# Altium integrated library NSC Amplifier.IntLib: 737 symbols (part 13 of 19)
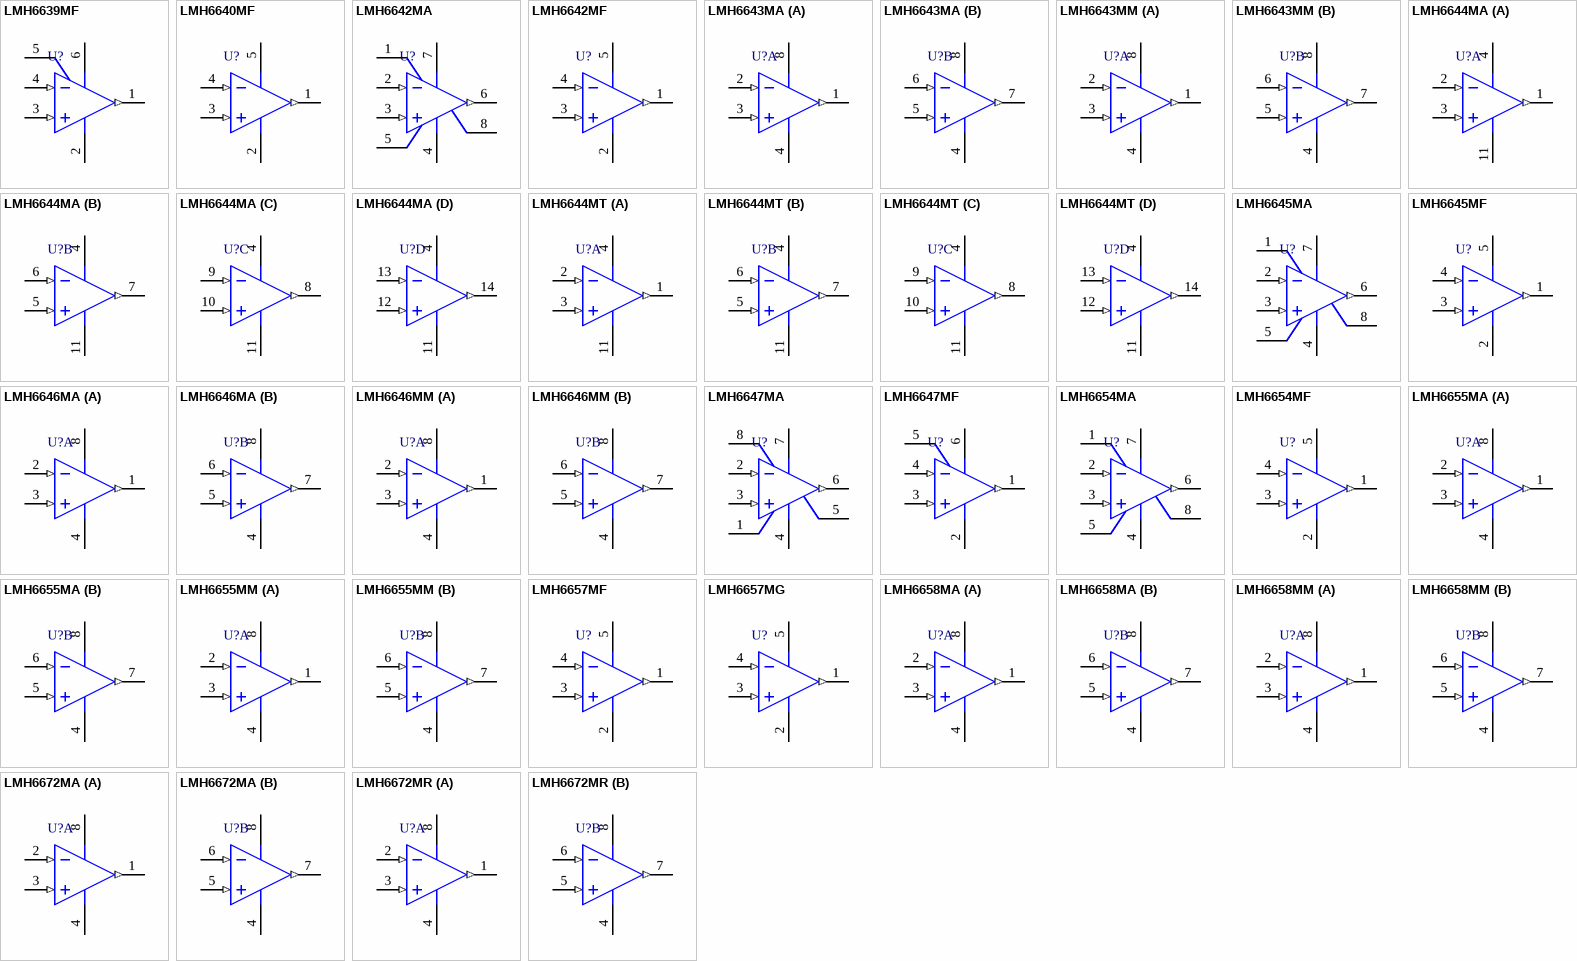
[diagram p51: symbols LMH6639MF to LMH6672MR]

## LMH6644MA
designator U?
Low Power, 130MHz, 75mA Rail-to-Rail Output Amplifier; PartNumber: LMH6644MA; Manufacturer: National Semiconductor; CompType: Amplifiers; PackageTopMarking: NSUZXYTT*LMH6644MA; PowerWise: Y; Published: 4-Dec-2008; LatestRevisionDate: 13-Jan-2009; LatestRevisionNote: Sim Model Added.; DatasheetVersion: Nov-2008; PackageVersion: revJ, Jan-1996; PackageReference: M14A; Publisher: Altium Limited; PackageDescription: Molded Package S.O., .150in Wide, 14 Lead; RoHS: O; PinCount: 14; DigiKeyPartNumber: LMH6644MA-ND; Code_JEDEC: MS-012AB; Code_IPC: SOIC127P600-14; ComponentLink1Description: LMH6642 Datasheet; ComponentLink1URL: http://www.national.com/ds/LM/LMH6642.pdf; ComponentLink2Description: LMH6644 Web Page; ComponentLink2URL: http://www.national.com/pf/LM/LMH6644.html; ComponentLink3Description: M14A Package Page; ComponentLink3URL: http://www.national.com/packaging/folders/m14a.html
footprint M14A_N (SOIC, 14-Leads, Body 8.6x3.9mm, Pitch 1.27mm, IPC Medium Density)
footprint M14A_L (SOIC, 14-Leads, Body 8.6x3.9mm, Pitch 1.27mm, IPC High Density)
footprint M14A_M (SOIC, 14-Leads, Body 8.6x3.9mm, Pitch 1.27mm, IPC Low Density)
simulation model LMH6644 (SUBCKT)
pins on every part: 4 V+ (power), 11 V- (power)
part A pins: 1 OUTA (out), 2 INA- (in), 3 INA+ (in)
part B pins: 5 INB+ (in), 6 INB- (in), 7 OUTB (out)
part C pins: 8 OUTC (out), 9 INC- (in), 10 INC+ (in)
part D pins: 12 IND+ (in), 13 IND- (in), 14 OUTD (out)

## LMH6644MT
designator U?
Low Power, 130MHz, 75mA Rail-to-Rail Output Amplifier; PartNumber: LMH6644MT; Manufacturer: National Semiconductor; CompType: Amplifiers; PackageTopMarking: NSZXYTT*LMH66*44MT; PowerWise: Y; Published: 4-Dec-2008; LatestRevisionDate: 13-Jan-2009; LatestRevisionNote: Sim Model Added.; DatasheetVersion: Nov-2008; PackageVersion: revD, Jun-2003; PackageReference: MTC14; Publisher: Altium Limited; PackageDescription: Molded TSSOP, JEDEC, 5 x 4.4 x 0.9mm Body, 14 Lead, 0.65mm Pitch; RoHS: Y; PinCount: 14; DigiKeyPartNumber: LMH6644MT-ND; Code_JEDEC: MO-153-AB-1; ComponentLink1Description: LMH6642 Datasheet; ComponentLink1URL: http://www.national.com/ds/LM/LMH6642.pdf; ComponentLink2Description: LMH6644 Web Page; ComponentLink2URL: http://www.national.com/pf/LM/LMH6644.html; ComponentLink3Description: MTC14 Package Page; ComponentLink3URL: http://www.national.com/packaging/folders/mtc14.html
footprint MTC14_N (TSOP, 14-Leads, Body 5x4.4mm, Pitch 0.65mm, IPC Medium Density)
footprint MTC14_L (TSOP, 14-Leads, Body 5x4.4mm, Pitch 0.65mm, IPC High Density)
footprint MTC14_M (TSOP, 14-Leads, Body 5x4.4mm, Pitch 0.65mm, IPC Low Density)
simulation model LMH6644 (SUBCKT)
pins on every part: 4 V+ (power), 11 V- (power)
part A pins: 1 OUTA (out), 2 INA- (in), 3 INA+ (in)
part B pins: 5 INB+ (in), 6 INB- (in), 7 OUTB (out)
part C pins: 8 OUTC (out), 9 INC- (in), 10 INC+ (in)
part D pins: 12 IND+ (in), 13 IND- (in), 14 OUTD (out)

## LMH6645MA
designator U?
2.7V, 650uA, 65MHz, Rail-to-Rail Input and Output Amplifiers with Shutdown Option; PartNumber: LMH6645MA; Manufacturer: National Semiconductor; PackageTopMarking: NSZXTT*LMH66*45MA; PowerWise: Y; Published: 4-Dec-2008; LatestRevisionDate: 13-Jan-2009; LatestRevisionNote: Sim Model Added.; DatasheetVersion: Jun-2005; PackageVersion: revL, Sep-2006; PackageReference: M08A; Publisher: Altium Limited; PackageDescription: SOIC Narrow, 4.9 x 3.9 x 1.45mm, 8 Lead, 1.27mm Pitch; CompType: Amplifiers; RoHS: O; PinCount: 8; DigiKeyPartNumber: LMH6645MA-ND; Code_JEDEC: MS-012-AA; Code_IPC: SOIC127P600-8; ComponentLink1Description: LMH6645 Datasheet; ComponentLink1URL: http://www.national.com/ds/LM/LMH6645.pdf; ComponentLink2Description: LMH6645 Web Page; ComponentLink2URL: http://www.national.com/pf/LM/LMH6645.html; ComponentLink3Description: M08A Package Page; ComponentLink3URL: http://www.national.com/packaging/folders/m08a.html
footprint M08A_N (SOIC, 8-Leads, Body 4.9x3.9mm, Pitch 1.27mm, IPC Medium Density)
footprint M08A_L (SOIC, 8-Leads, Body 4.9x3.9mm, Pitch 1.27mm, IPC High Density)
footprint M08A_M (SOIC, 8-Leads, Body 4.9x3.9mm, Pitch 1.27mm, IPC Low Density)
simulation model LMH6645 (SUBCKT)
pins: 1 NC, 2 IN- (in), 3 IN+ (in), 4 V- (power), 5 NC, 6 OUT (out), 7 V+ (power), 8 NC

## LMH6645MF
designator U?
2.7V, 650uA, 65MHz, Rail-to-Rail Input and Output Amplifiers with Shutdown Option; PartNumber: LMH6645MF; Manufacturer: National Semiconductor; PackageTopMarking: A68A*XTT; PowerWise: Y; Published: 4-Dec-2008; LatestRevisionDate: 13-Jan-2009; LatestRevisionNote: Sim Model Added.; DatasheetVersion: Jun-2005; PackageVersion: revD, Aug-2008; PackageReference: MF05A; Publisher: Altium Limited; PackageDescription: Molded SOT-23, .115 x .063 x .040 in Body, 5 Lead, .0375 in Pitch; CompType: Amplifiers; RoHS: O; PinCount: 5; DigiKeyPartNumber: LMH6645MFCT-ND; Code_IPC: SOT23-5; ComponentLink1Description: LMH6645 Datasheet; ComponentLink1URL: http://www.national.com/ds/LM/LMH6645.pdf; ComponentLink2Description: LMH6645 Web Page; ComponentLink2URL: http://www.national.com/pf/LM/LMH6645.html; ComponentLink3Description: MF05A Package Page; ComponentLink3URL: http://www.national.com/packaging/folders/mf05a.html
footprint MF05A_N (SOT23, 5-Leads, Body 2.9x1.6mm, Pitch 0.95mm, Lead Span 2.8mm, IPC Medium Density)
footprint MF05A_L (SOT23, 5-Leads, Body 2.9x1.6mm, Pitch 0.95mm, Lead Span 2.8mm, IPC High Density)
footprint MF05A_M (SOT23, 5-Leads, Body 2.9x1.6mm, Pitch 0.95mm, Lead Span 2.8mm, IPC Low Density)
simulation model LMH6645 (SUBCKT)
pins: 1 OUT (out), 2 V- (power), 3 IN+ (in), 4 IN- (in), 5 V+ (power)

## LMH6646MA
designator U?
2.7V, 650uA, 65MHz, Rail-to-Rail Input and Output Amplifiers with Shutdown Option; PartNumber: LMH6646MA; Manufacturer: National Semiconductor; PackageTopMarking: NSZXTT*LMH66*46MA; PowerWise: Y; Published: 4-Dec-2008; LatestRevisionDate: 13-Jan-2009; LatestRevisionNote: Sim Model Added.; DatasheetVersion: Jun-2005; PackageVersion: revL, Sep-2006; PackageReference: M08A; Publisher: Altium Limited; PackageDescription: SOIC Narrow, 4.9 x 3.9 x 1.45mm, 8 Lead, 1.27mm Pitch; CompType: Amplifiers; RoHS: Y; PinCount: 8; DigiKeyPartNumber: LMH6646MA-ND; Code_JEDEC: MS-012-AA; Code_IPC: SOIC127P600-8; ComponentLink1Description: LMH6645 Datasheet; ComponentLink1URL: http://www.national.com/ds/LM/LMH6645.pdf; ComponentLink2Description: LMH6646 Web Page; ComponentLink2URL: http://www.national.com/pf/LM/LMH6646.html; ComponentLink3Description: M08A Package Page; ComponentLink3URL: http://www.national.com/packaging/folders/m08a.html
footprint M08A_N (SOIC, 8-Leads, Body 4.9x3.9mm, Pitch 1.27mm, IPC Medium Density)
footprint M08A_L (SOIC, 8-Leads, Body 4.9x3.9mm, Pitch 1.27mm, IPC High Density)
footprint M08A_M (SOIC, 8-Leads, Body 4.9x3.9mm, Pitch 1.27mm, IPC Low Density)
simulation model LMH6646 (SUBCKT)
pins on every part: 4 V- (power), 8 V+ (power)
part A pins: 1 OUTA (out), 2 INA- (in), 3 INA+ (in)
part B pins: 5 INB+ (in), 6 INB- (in), 7 OUTB (out)

## LMH6646MM
designator U?
2.7V, 650uA, 65MHz, Rail-to-Rail Input and Output Amplifiers with Shutdown Option; PartNumber: LMH6646MM; Manufacturer: National Semiconductor; PackageTopMarking: ZXTT*A70A; PowerWise: Y; Published: 4-Dec-2008; LatestRevisionDate: 13-Jan-2009; LatestRevisionNote: Sim Model Added.; DatasheetVersion: Jun-2005; PackageVersion: revF, Apr-2008; PackageReference: MUA08A; Publisher: Altium Limited; PackageDescription: MINI SOIC, .118 x .118 x .034in, 8 Lead, .0256in Pitch; CompType: Amplifiers; RoHS: O; PinCount: 8; DigiKeyPartNumber: LMH6646MMCT-ND; Code_JEDEC: MO-187-AA; ComponentLink1Description: LMH6645 Datasheet; ComponentLink1URL: http://www.national.com/ds/LM/LMH6645.pdf; ComponentLink2Description: LMH6646 Web Page; ComponentLink2URL: http://www.national.com/pf/LM/LMH6646.html; ComponentLink3Description: MUA08A Package Page; ComponentLink3URL: http://www.national.com/packaging/folders/mua08a.html
footprint MUA08A_N (TSOP, 8-Leads, Body 3x3mm, Pitch 0.65mm, IPC Medium Density)
footprint MUA08A_L (TSOP, 8-Leads, Body 3x3mm, Pitch 0.65mm, IPC High Density)
footprint MUA08A_M (TSOP, 8-Leads, Body 3x3mm, Pitch 0.65mm, IPC Low Density)
simulation model LMH6646 (SUBCKT)
pins on every part: 4 V- (power), 8 V+ (power)
part A pins: 1 OUTA (out), 2 INA- (in), 3 INA+ (in)
part B pins: 5 INB+ (in), 6 INB- (in), 7 OUTB (out)

## LMH6647MA
designator U?
2.7V, 650uA, 65MHz, Rail-to-Rail Input and Output Amplifiers with Shutdown Option; PartNumber: LMH6647MA; Manufacturer: National Semiconductor; PackageTopMarking: NSZXTT*LMH66*47MA; PowerWise: Y; Published: 4-Dec-2008; LatestRevisionDate: 13-Jan-2009; LatestRevisionNote: Sim Model Added.; DatasheetVersion: Jun-2005; PackageVersion: revL, Sep-2006; PackageReference: M08A; Publisher: Altium Limited; PackageDescription: SOIC Narrow, 4.9 x 3.9 x 1.45mm, 8 Lead, 1.27mm Pitch; CompType: Amplifiers; RoHS: Y; PinCount: 8; DigiKeyPartNumber: LMH6647MA-ND; Code_JEDEC: MS-012-AA; Code_IPC: SOIC127P600-8; ComponentLink1Description: LMH6645 Datasheet; ComponentLink1URL: http://www.national.com/ds/LM/LMH6645.pdf; ComponentLink2Description: LMH6647 Web Page; ComponentLink2URL: http://www.national.com/pf/LM/LMH6647.html; ComponentLink3Description: M08A Package Page; ComponentLink3URL: http://www.national.com/packaging/folders/m08a.html
footprint M08A_N (SOIC, 8-Leads, Body 4.9x3.9mm, Pitch 1.27mm, IPC Medium Density)
footprint M08A_L (SOIC, 8-Leads, Body 4.9x3.9mm, Pitch 1.27mm, IPC High Density)
footprint M08A_M (SOIC, 8-Leads, Body 4.9x3.9mm, Pitch 1.27mm, IPC Low Density)
simulation model LMH6647 (SUBCKT)
pins: 1 NC, 2 IN- (in), 3 IN+ (in), 4 V- (power), 5 NC, 6 OUT (out), 7 V+ (power), 8 SD

## LMH6647MF
designator U?
2.7V, 650uA, 65MHz, Rail-to-Rail Input and Output Amplifiers with Shutdown Option; PartNumber: LMH6647MF; Manufacturer: National Semiconductor; PackageTopMarking: A69A*XTT; PowerWise: Y; Published: 4-Dec-2008; LatestRevisionDate: 13-Jan-2009; LatestRevisionNote: Sim Model Added.; DatasheetVersion: Jun-2005; PackageVersion: revC, Sep-2005; PackageReference: MF06A; Publisher: Altium Limited; PackageDescription: Molded SOT-23, .115 x .063 x .040in Body, 6 Lead, .0375in in Pitch; CompType: Amplifiers; RoHS: O; PinCount: 6; DigiKeyPartNumber: LMH6647MFCT-ND; Code_JEDEC: MO-178-AB; Code_IPC: SOT26A-6; ComponentLink1Description: LMH6645 Datasheet; ComponentLink1URL: http://www.national.com/ds/LM/LMH6645.pdf; ComponentLink2Description: LMH6647 Web Page; ComponentLink2URL: http://www.national.com/pf/LM/LMH6647.html; ComponentLink3Description: MF06A Package Page; ComponentLink3URL: http://www.national.com/packaging/folders/mf06a.html
footprint MF06A_N (SOT23, 6-Leads, Body 2.9x1.6mm, Pitch 0.95mm, Lead Span 2.8mm, IPC Medium Density)
footprint MF06A_L (SOT23, 6-Leads, Body 2.9x1.6mm, Pitch 0.95mm, Lead Span 2.8mm, IPC High Density)
footprint MF06A_M (SOT23, 6-Leads, Body 2.9x1.6mm, Pitch 0.95mm, Lead Span 2.8mm, IPC Low Density)
simulation model LMH6647 (SUBCKT)
pins: 1 OUT (out), 2 V- (power), 3 IN+ (in), 4 IN- (in), 5 SD, 6 V+ (power)

## LMH6654MA
designator U?
Single Low Power, 250 MHz, Low Noise Amplifier; PartNumber: LMH6654MA; Manufacturer: National Semiconductor; CompType: Amplifiers; PackageTopMarking: NSZXTT*LMH66*54MA; PowerWise: Y; Published: 4-Dec-2008; LatestRevisionDate: 13-Jan-2009; LatestRevisionNote: Sim Model Added.; DatasheetVersion: Jun-2009; PackageVersion: revL, Sep-2006; PackageReference: M08A; Publisher: Altium Limited; PackageDescription: SOIC Narrow, 4.9 x 3.9 x 1.45mm, 8 Lead, 1.27mm Pitch; RoHS: Y; PinCount: 8; DigiKeyPartNumber: LMH6654MA-ND; Code_JEDEC: MS-012-AA; Code_IPC: SOIC127P600-8; ComponentLink1Description: LMH6654 Datasheet; ComponentLink1URL: http://www.national.com/ds/LM/LMH6654.pdf; ComponentLink2Description: LMH6654 Web Page; ComponentLink2URL: http://www.national.com/pf/LM/LMH6654.html; ComponentLink3Description: M08A Package Page; ComponentLink3URL: http://www.national.com/packaging/folders/m08a.html
footprint M08A_N (SOIC, 8-Leads, Body 4.9x3.9mm, Pitch 1.27mm, IPC Medium Density)
footprint M08A_L (SOIC, 8-Leads, Body 4.9x3.9mm, Pitch 1.27mm, IPC High Density)
footprint M08A_M (SOIC, 8-Leads, Body 4.9x3.9mm, Pitch 1.27mm, IPC Low Density)
simulation model LMH6655 (SUBCKT)
pins: 1 NC, 2 IN- (in), 3 IN+ (in), 4 V- (power), 5 NC, 6 OUT (out), 7 V+ (power), 8 NC

## LMH6654MF
designator U?
Single Low Power, 250 MHz, Low Noise Amplifier; PartNumber: LMH6654MF; Manufacturer: National Semiconductor; CompType: Amplifiers; PackageTopMarking: A66A*XTT; PowerWise: Y; Published: 4-Dec-2008; LatestRevisionDate: 13-Jan-2009; LatestRevisionNote: Sim Model Added.; DatasheetVersion: Jun-2009; PackageVersion: revD, Aug-2008; PackageReference: MF05A; Publisher: Altium Limited; PackageDescription: Molded SOT-23, .115 x .063 x .040 in Body, 5 Lead, .0375 in Pitch; RoHS: O; PinCount: 5; DigiKeyPartNumber: LMH6654MFCT-ND; Code_IPC: SOT23-5; ComponentLink1Description: LMH6654 Datasheet; ComponentLink1URL: http://www.national.com/ds/LM/LMH6654.pdf; ComponentLink2Description: LMH6654 Web Page; ComponentLink2URL: http://www.national.com/pf/LM/LMH6654.html; ComponentLink3Description: MF05A Package Page; ComponentLink3URL: http://www.national.com/packaging/folders/mf05a.html
footprint MF05A_N (SOT23, 5-Leads, Body 2.9x1.6mm, Pitch 0.95mm, Lead Span 2.8mm, IPC Medium Density)
footprint MF05A_L (SOT23, 5-Leads, Body 2.9x1.6mm, Pitch 0.95mm, Lead Span 2.8mm, IPC High Density)
footprint MF05A_M (SOT23, 5-Leads, Body 2.9x1.6mm, Pitch 0.95mm, Lead Span 2.8mm, IPC Low Density)
simulation model LMH6655 (SUBCKT)
pins: 1 OUT (out), 2 V- (power), 3 IN+ (in), 4 IN- (in), 5 V+ (power)

## LMH6655MA
designator U?
Dual Low Power, 250 MHz, Low Noise Amplifier; PartNumber: LMH6655MA; Manufacturer: National Semiconductor; CompType: Amplifiers; PackageTopMarking: NSZXTT*LMH66*55MA; PowerWise: Y; Published: 4-Dec-2008; LatestRevisionDate: 13-Jan-2009; LatestRevisionNote: Sim Model Added.; DatasheetVersion: Jun-2009; PackageVersion: revL, Sep-2006; PackageReference: M08A; Publisher: Altium Limited; PackageDescription: SOIC Narrow, 4.9 x 3.9 x 1.45mm, 8 Lead, 1.27mm Pitch; RoHS: O; PinCount: 8; DigiKeyPartNumber: LMH6655MA-ND; Code_JEDEC: MS-012-AA; Code_IPC: SOIC127P600-8; ComponentLink1Description: LMH6654 Datasheet; ComponentLink1URL: http://www.national.com/ds/LM/LMH6654.pdf; ComponentLink2Description: LMH6655 Web Page; ComponentLink2URL: http://www.national.com/pf/LM/LMH6655.html; ComponentLink3Description: M08A Package Page; ComponentLink3URL: http://www.national.com/packaging/folders/m08a.html
footprint M08A_N (SOIC, 8-Leads, Body 4.9x3.9mm, Pitch 1.27mm, IPC Medium Density)
footprint M08A_L (SOIC, 8-Leads, Body 4.9x3.9mm, Pitch 1.27mm, IPC High Density)
footprint M08A_M (SOIC, 8-Leads, Body 4.9x3.9mm, Pitch 1.27mm, IPC Low Density)
simulation model LMH6655 (SUBCKT)
pins on every part: 4 V- (power), 8 V+ (power)
part A pins: 1 OUTA (out), 2 INA- (in), 3 INA+ (in)
part B pins: 5 INB+ (in), 6 INB- (in), 7 OUTB (out)

## LMH6655MM
designator U?
Dual Low Power, 250 MHz, Low Noise Amplifier; PartNumber: LMH6655MM; Manufacturer: National Semiconductor; CompType: Amplifiers; PackageTopMarking: ZXTT*A67A; PowerWise: Y; Published: 4-Dec-2008; LatestRevisionDate: 13-Jan-2009; LatestRevisionNote: Sim Model Added.; DatasheetVersion: Jun-2009; PackageVersion: revF, Apr-2008; PackageReference: MUA08A; Publisher: Altium Limited; PackageDescription: MINI SOIC, .118 x .118 x .034in, 8 Lead, .0256in Pitch; RoHS: Y; PinCount: 8; DigiKeyPartNumber: LMH6655MMCT-ND; Code_JEDEC: MO-187-AA; ComponentLink1Description: LMH6654 Datasheet; ComponentLink1URL: http://www.national.com/ds/LM/LMH6654.pdf; ComponentLink2Description: LMH6655 Web Page; ComponentLink2URL: http://www.national.com/pf/LM/LMH6655.html; ComponentLink3Description: MUA08A Package Page; ComponentLink3URL: http://www.national.com/packaging/folders/mua08a.html
footprint MUA08A_N (TSOP, 8-Leads, Body 3x3mm, Pitch 0.65mm, IPC Medium Density)
footprint MUA08A_L (TSOP, 8-Leads, Body 3x3mm, Pitch 0.65mm, IPC High Density)
footprint MUA08A_M (TSOP, 8-Leads, Body 3x3mm, Pitch 0.65mm, IPC Low Density)
simulation model LMH6655 (SUBCKT)
pins on every part: 4 V- (power), 8 V+ (power)
part A pins: 1 OUTA (out), 2 INA- (in), 3 INA+ (in)
part B pins: 5 INB+ (in), 6 INB- (in), 7 OUTB (out)

## LMH6657MF
designator U?
270MHz Single Supply, Single & Dual Operational Amplifiers; PartNumber: LMH6657MF; Manufacturer: National Semiconductor; PackageTopMarking: A85A*XTT; PowerWise: Y; Published: 4-Dec-2008; LatestRevisionDate: 13-Jan-2009; LatestRevisionNote: Sim Model Added.; DatasheetVersion: Oct-2004; PackageVersion: revD, Aug-2008; PackageReference: MF05A; Publisher: Altium Limited; PackageDescription: Molded SOT-23, .115 x .063 x .040 in Body, 5 Lead, .0375 in Pitch; CompType: Amplifiers; RoHS: O; PinCount: 5; DigiKeyPartNumber: LMH6657MFCT-ND; Code_IPC: SOT23-5; ComponentLink1Description: LMH6657 Datasheet; ComponentLink1URL: http://www.national.com/ds/LM/LMH6657.pdf; ComponentLink2Description: LMH6657 Web Page; ComponentLink2URL: http://www.national.com/pf/LM/LMH6657.html; ComponentLink3Description: MF05A Package Page; ComponentLink3URL: http://www.national.com/packaging/folders/mf05a.html
footprint MF05A_N (SOT23, 5-Leads, Body 2.9x1.6mm, Pitch 0.95mm, Lead Span 2.8mm, IPC Medium Density)
footprint MF05A_L (SOT23, 5-Leads, Body 2.9x1.6mm, Pitch 0.95mm, Lead Span 2.8mm, IPC High Density)
footprint MF05A_M (SOT23, 5-Leads, Body 2.9x1.6mm, Pitch 0.95mm, Lead Span 2.8mm, IPC Low Density)
simulation model LMH6657 (SUBCKT)
pins: 1 OUT (out), 2 V- (power), 3 IN+ (in), 4 IN- (in), 5 V+ (power)

## LMH6657MG
designator U?
270MHz Single Supply, Single & Dual Operational Amplifiers; PartNumber: LMH6657MG; Manufacturer: National Semiconductor; PackageTopMarking: A76*XTT; PowerWise: Y; Published: 4-Dec-2008; LatestRevisionDate: 13-Jan-2009; LatestRevisionNote: Sim Model Added.; DatasheetVersion: Oct-2004; PackageVersion: revD, Jun-2007; PackageReference: MAA05A; Publisher: Altium Limited; PackageDescription: Molded SC-70, 2 x 1.25 x .9mm, 5 Lead, 0.65mm Pitch; CompType: Amplifiers; RoHS: O; PinCount: 5; DigiKeyPartNumber: LMH6657MGCT-ND; Code_JEITA: SC-88A; Code_JEDEC: MO-203-AA; Code_IPC: SOT353-5; ComponentLink1Description: LMH6657 Datasheet; ComponentLink1URL: http://www.national.com/ds/LM/LMH6657.pdf; ComponentLink2Description: LMH6657 Web Page; ComponentLink2URL: http://www.national.com/pf/LM/LMH6657.html; ComponentLink3Description: MAA05A Package Page; ComponentLink3URL: http://www.national.com/packaging/folders/maa05a.html
footprint MAA05A_N (SOT353, 5-Leads, Body 2x1.3mm, Pitch 0.65mm, Lead Span 2.1mm, IPC Medium Density)
footprint MAA05A_L (SOT353, 5-Leads, Body 2x1.3mm, Pitch 0.65mm, Lead Span 2.1mm, IPC High Density)
footprint MAA05A_M (SOT353, 5-Leads, Body 2x1.3mm, Pitch 0.65mm, Lead Span 2.1mm, IPC Low Density)
simulation model LMH6657 (SUBCKT)
pins: 1 OUT (out), 2 V- (power), 3 IN+ (in), 4 IN- (in), 5 V+ (power)

## LMH6658MA
designator U?
270MHz Single Supply, Single & Dual Operational Amplifiers; PartNumber: LMH6658MA; Manufacturer: National Semiconductor; PackageTopMarking: NSZXTT*LMH66*58MA; PowerWise: Y; Published: 4-Dec-2008; LatestRevisionDate: 13-Jan-2009; LatestRevisionNote: Sim Model Added.; DatasheetVersion: Oct-2004; PackageVersion: revL, Sep-2006; PackageReference: M08A; Publisher: Altium Limited; PackageDescription: SOIC Narrow, 4.9 x 3.9 x 1.45mm, 8 Lead, 1.27mm Pitch; CompType: Amplifiers; RoHS: Y; PinCount: 8; DigiKeyPartNumber: LMH6658MA-ND; Code_JEDEC: MS-012-AA; Code_IPC: SOIC127P600-8; ComponentLink1Description: LMH6658 Datasheet; ComponentLink1URL: http://www.national.com/ds/LM/LMH6658.pdf; ComponentLink2Description: LMH6658 Web Page; ComponentLink2URL: http://www.national.com/pf/LM/LMH6658.html; ComponentLink3Description: M08A Package Page; ComponentLink3URL: http://www.national.com/packaging/folders/m08a.html
footprint M08A_N (SOIC, 8-Leads, Body 4.9x3.9mm, Pitch 1.27mm, IPC Medium Density)
footprint M08A_L (SOIC, 8-Leads, Body 4.9x3.9mm, Pitch 1.27mm, IPC High Density)
footprint M08A_M (SOIC, 8-Leads, Body 4.9x3.9mm, Pitch 1.27mm, IPC Low Density)
simulation model LMH6657 (SUBCKT)
pins on every part: 4 V- (power), 8 V+ (power)
part A pins: 1 OUTA (out), 2 INA- (in), 3 INA+ (in)
part B pins: 5 INB+ (in), 6 INB- (in), 7 OUTB (out)

## LMH6658MM
designator U?
270MHz Single Supply, Single & Dual Operational Amplifiers; PartNumber: LMH6658MM; Manufacturer: National Semiconductor; PackageTopMarking: ZXTT*A88A; PowerWise: Y; Published: 4-Dec-2008; LatestRevisionDate: 13-Jan-2009; LatestRevisionNote: Sim Model Added.; DatasheetVersion: Oct-2004; PackageVersion: revF, Apr-2008; PackageReference: MUA08A; Publisher: Altium Limited; PackageDescription: MINI SOIC, .118 x .118 x .034in, 8 Lead, .0256in Pitch; CompType: Amplifiers; RoHS: Y; PinCount: 8; DigiKeyPartNumber: LMH6658MMCT-ND; Code_JEDEC: MO-187-AA; ComponentLink1Description: LMH6658 Datasheet; ComponentLink1URL: http://www.national.com/ds/LM/LMH6658.pdf; ComponentLink2Description: LMH6658 Web Page; ComponentLink2URL: http://www.national.com/pf/LM/LMH6658.html; ComponentLink3Description: MUA08A Package Page; ComponentLink3URL: http://www.national.com/packaging/folders/mua08a.html
footprint MUA08A_N (TSOP, 8-Leads, Body 3x3mm, Pitch 0.65mm, IPC Medium Density)
footprint MUA08A_L (TSOP, 8-Leads, Body 3x3mm, Pitch 0.65mm, IPC High Density)
footprint MUA08A_M (TSOP, 8-Leads, Body 3x3mm, Pitch 0.65mm, IPC Low Density)
simulation model LMH6657 (SUBCKT)
pins on every part: 4 V- (power), 8 V+ (power)
part A pins: 1 OUTA (out), 2 INA- (in), 3 INA+ (in)
part B pins: 5 INB+ (in), 6 INB- (in), 7 OUTB (out)

## LMH6672MA
designator U?
Dual, High Output Current, High Speed Op Amp; PartNumber: LMH6672MA; Manufacturer: National Semiconductor; CompType: Amplifiers; PackageTopMarking: NSZXTT*LMH66*72MA; PowerWise: N; Published: 4-Dec-2008; LatestRevisionDate: 13-Jan-2009; LatestRevisionNote: Sim Model Added.; DatasheetVersion: Apr-2004; PackageVersion: revL, Sep-2006; PackageReference: M08A; Publisher: Altium Limited; PackageDescription: SOIC Narrow, 4.9 x 3.9 x 1.45mm, 8 Lead, 1.27mm Pitch; RoHS: Y; PinCount: 8; DigiKeyPartNumber: LMH6672MA-ND; Code_JEDEC: MS-012-AA; Code_IPC: SOIC127P600-8; ComponentLink1Description: LMH6672 Datasheet; ComponentLink1URL: http://www.national.com/ds/LM/LMH6672.pdf; ComponentLink2Description: LMH6672 Web Page; ComponentLink2URL: http://www.national.com/pf/LM/LMH6672.html; ComponentLink3Description: M08A Package Page; ComponentLink3URL: http://www.national.com/packaging/folders/m08a.html
footprint M08A_N (SOIC, 8-Leads, Body 4.9x3.9mm, Pitch 1.27mm, IPC Medium Density)
footprint M08A_L (SOIC, 8-Leads, Body 4.9x3.9mm, Pitch 1.27mm, IPC High Density)
footprint M08A_M (SOIC, 8-Leads, Body 4.9x3.9mm, Pitch 1.27mm, IPC Low Density)
simulation model LMH6672 (SUBCKT)
pins on every part: 4 V- (power), 8 V+ (power)
part A pins: 1 OUTA (out), 2 INA- (in), 3 INA+ (in)
part B pins: 5 INB+ (in), 6 INB- (in), 7 OUTB (out)

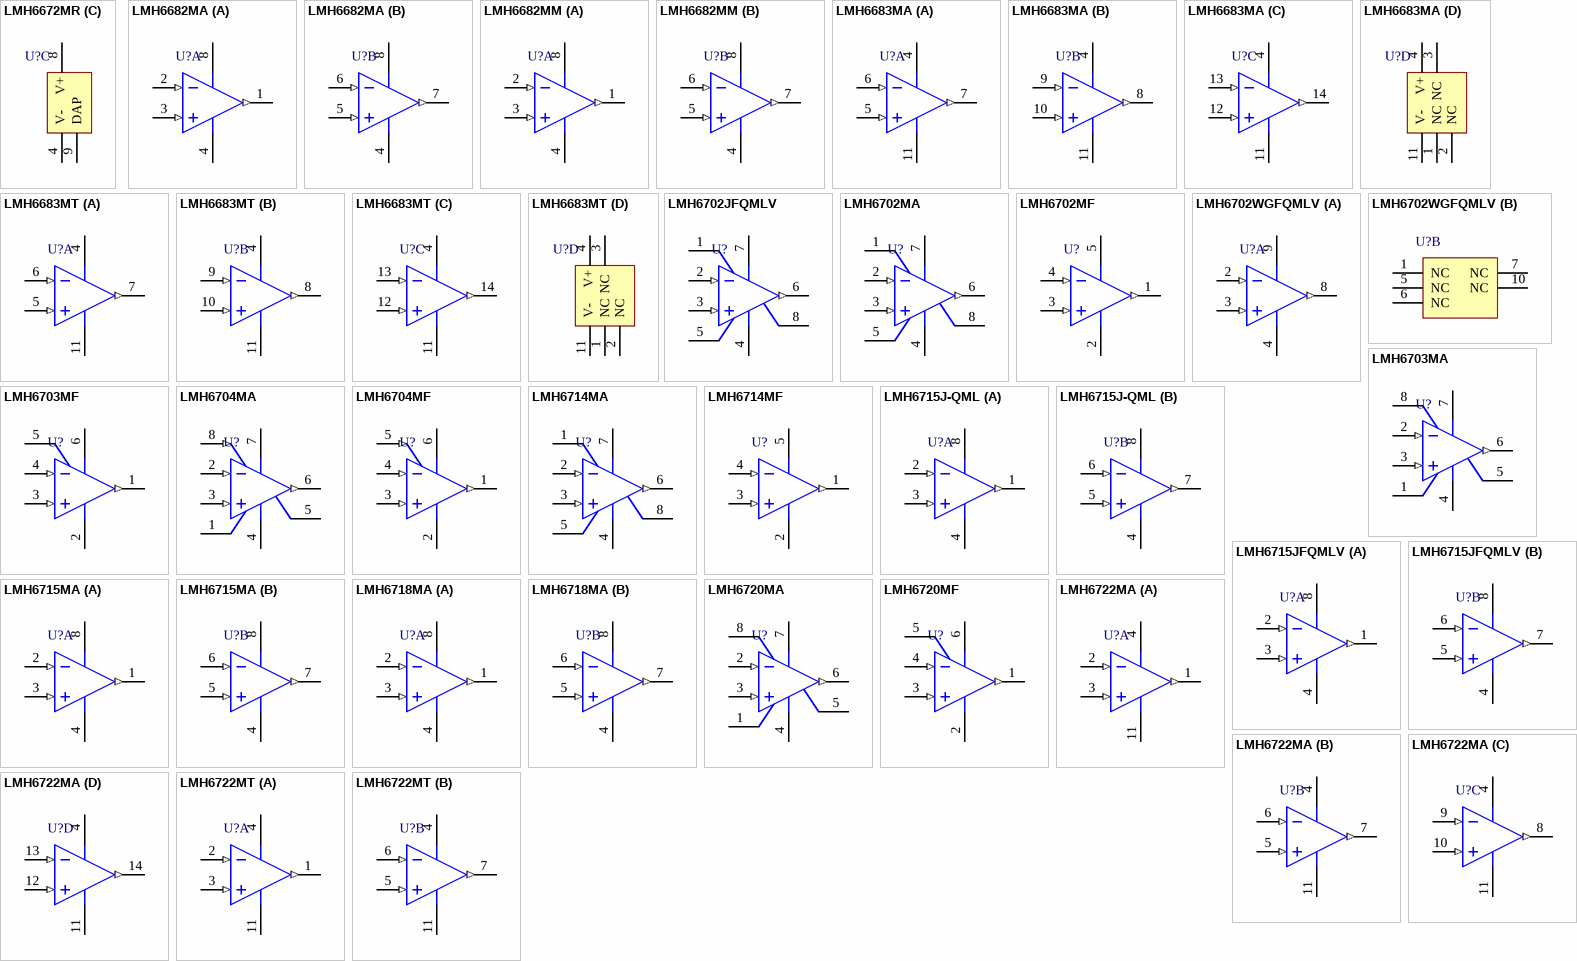
[diagram p28: symbols LMH6672MR to LMH6722MT]

## LMH6672MR
designator U?
Dual, High Output Current, High Speed Op Amp; PartNumber: LMH6672MR; Manufacturer: National Semiconductor; CompType: Amplifiers; PackageTopMarking: NSXYTT*LMH66*72MR; PowerWise: N; Published: 4-Dec-2008; LatestRevisionDate: 13-Jan-2009; LatestRevisionNote: Sim Model Added.; DatasheetVersion: Apr-2004; PackageVersion: revD, Dec-2007; PackageReference: MRA08A; Publisher: Altium Limited; PackageDescription: Molded, PSOP .193 x .154 x .058in, 8 Lead, .050in Pitch; RoHS: Y; PinCount: 8; DigiKeyPartNumber: LMH6672MR-ND; Code_JEDEC: MS-012-AA; ComponentLink1Description: LMH6672 Datasheet; ComponentLink1URL: http://www.national.com/ds/LM/LMH6672.pdf; ComponentLink2Description: LMH6672 Web Page; ComponentLink2URL: http://www.national.com/pf/LM/LMH6672.html; ComponentLink3Description: MRA08A Package Page; ComponentLink3URL: http://www.national.com/packaging/folders/mra08a.html
footprint MRA08A_N (SOIC, 8-Leads, Body 4.9x3.9mm, Pitch 1.27mm, Exposed Pad, IPC Medium Density)
footprint MRA08A_L (SOIC, 8-Leads, Body 4.9x3.9mm, Pitch 1.27mm, Exposed Pad, IPC High Density)
footprint MRA08A_M (SOIC, 8-Leads, Body 4.9x3.9mm, Pitch 1.27mm, Exposed Pad, IPC Low Density)
simulation model LMH6672 (SUBCKT)
pins on every part: 4 V- (power), 8 V+ (power)
part A pins: 1 OUTA (out), 2 INA- (in), 3 INA+ (in)
part B pins: 5 INB+ (in), 6 INB- (in), 7 OUTB (out)
part C pins: 9 DAP

## LMH6682MA
designator U?
190MHz Single Supply, Dual and Triple Operational Amplifiers; PartNumber: LMH6682MA; Manufacturer: National Semiconductor; PackageTopMarking: NSZXTT*LMH66*82MA; PowerWise: N; Published: 4-Dec-2008; DatasheetVersion: Nov-2002; PackageVersion: revL, Sep-2006; PackageReference: M08A; Publisher: Altium Limited; PackageDescription: SOIC Narrow, 4.9 x 3.9 x 1.45mm, 8 Lead, 1.27mm Pitch; CompType: Amplifiers; RoHS: Y; PinCount: 8; DigiKeyPartNumber: LMH6682MA-ND; Code_JEDEC: MS-012-AA; Code_IPC: SOIC127P600-8; ComponentLink1Description: LMH6682 Datasheet; ComponentLink1URL: http://www.national.com/ds/LM/LMH6682.pdf; ComponentLink2Description: LMH6682 Web Page; ComponentLink2URL: http://www.national.com/pf/LM/LMH6682.html; ComponentLink3Description: M08A Package Page; ComponentLink3URL: http://www.national.com/packaging/folders/m08a.html
footprint M08A_N (SOIC, 8-Leads, Body 4.9x3.9mm, Pitch 1.27mm, IPC Medium Density)
footprint M08A_L (SOIC, 8-Leads, Body 4.9x3.9mm, Pitch 1.27mm, IPC High Density)
footprint M08A_M (SOIC, 8-Leads, Body 4.9x3.9mm, Pitch 1.27mm, IPC Low Density)
pins on every part: 4 V- (power), 8 V+ (power)
part A pins: 1 OUTA (out), 2 INA- (in), 3 INA+ (in)
part B pins: 5 INB+ (in), 6 INB- (in), 7 OUTB (out)

## LMH6682MM
designator U?
190MHz Single Supply, Dual and Triple Operational Amplifiers; PartNumber: LMH6682MM; Manufacturer: National Semiconductor; PackageTopMarking: ZXTT*A90A; PowerWise: N; Published: 4-Dec-2008; DatasheetVersion: Nov-2002; PackageVersion: revF, Apr-2008; PackageReference: MUA08A; Publisher: Altium Limited; PackageDescription: MINI SOIC, .118 x .118 x .034in, 8 Lead, .0256in Pitch; CompType: Amplifiers; RoHS: Y; PinCount: 8; DigiKeyPartNumber: LMH6682MMCT-ND; Code_JEDEC: MO-187-AA; ComponentLink1Description: LMH6682 Datasheet; ComponentLink1URL: http://www.national.com/ds/LM/LMH6682.pdf; ComponentLink2Description: LMH6682 Web Page; ComponentLink2URL: http://www.national.com/pf/LM/LMH6682.html; ComponentLink3Description: MUA08A Package Page; ComponentLink3URL: http://www.national.com/packaging/folders/mua08a.html
footprint MUA08A_N (TSOP, 8-Leads, Body 3x3mm, Pitch 0.65mm, IPC Medium Density)
footprint MUA08A_L (TSOP, 8-Leads, Body 3x3mm, Pitch 0.65mm, IPC High Density)
footprint MUA08A_M (TSOP, 8-Leads, Body 3x3mm, Pitch 0.65mm, IPC Low Density)
pins on every part: 4 V- (power), 8 V+ (power)
part A pins: 1 OUTA (out), 2 INA- (in), 3 INA+ (in)
part B pins: 5 INB+ (in), 6 INB- (in), 7 OUTB (out)

## LMH6683MA
designator U?
190MHz Single Supply, Dual and Triple Operational Amplifiers; PartNumber: LMH6683MA; Manufacturer: National Semiconductor; PackageTopMarking: NSUZXYTT*LMH66*83MA; PowerWise: N; Published: 4-Dec-2008; DatasheetVersion: Nov-2002; PackageVersion: revJ, Jan-1996; PackageReference: M14A; Publisher: Altium Limited; PackageDescription: Molded Package S.O., .150in Wide, 14 Lead; CompType: Amplifiers; RoHS: Y; PinCount: 14; DigiKeyPartNumber: LMH6683MA-ND; Code_JEDEC: MS-012AB; Code_IPC: SOIC127P600-14; ComponentLink1Description: LMH6683 Datasheet; ComponentLink1URL: http://www.national.com/ds/LM/LMH6683.pdf; ComponentLink2Description: LMH6683 Web Page; ComponentLink2URL: http://www.national.com/pf/LM/LMH6683.html; ComponentLink3Description: M14A Package Page; ComponentLink3URL: http://www.national.com/packaging/folders/m14a.html
footprint M14A_N (SOIC, 14-Leads, Body 8.6x3.9mm, Pitch 1.27mm, IPC Medium Density)
footprint M14A_L (SOIC, 14-Leads, Body 8.6x3.9mm, Pitch 1.27mm, IPC High Density)
footprint M14A_M (SOIC, 14-Leads, Body 8.6x3.9mm, Pitch 1.27mm, IPC Low Density)
pins on every part: 4 V+ (power), 11 V- (power)
part A pins: 5 IN1+ (in), 6 IN1- (in), 7 OUT1 (out)
part B pins: 8 OUT2 (out), 9 IN2- (in), 10 IN2+ (in)
part C pins: 12 IN3+ (in), 13 IN3- (in), 14 OUT3 (out)
part D pins: 1 NC, 2 NC, 3 NC

## LMH6683MT
designator U?
190MHz Single Supply, Dual and Triple Operational Amplifiers; PartNumber: LMH6683MT; Manufacturer: National Semiconductor; PackageTopMarking: NSZXYTT*LMH66*83MT; PowerWise: N; Published: 4-Dec-2008; DatasheetVersion: Nov-2002; PackageVersion: revD, Jun-2003; PackageReference: MTC14; Publisher: Altium Limited; PackageDescription: Molded TSSOP, JEDEC, 5 x 4.4 x 0.9mm Body, 14 Lead, 0.65mm Pitch; CompType: Amplifiers; RoHS: Y; PinCount: 14; DigiKeyPartNumber: LMH6683MT-ND; Code_JEDEC: MO-153-AB-1; ComponentLink1Description: LMH6683 Datasheet; ComponentLink1URL: http://www.national.com/ds/LM/LMH6683.pdf; ComponentLink2Description: LMH6683 Web Page; ComponentLink2URL: http://www.national.com/pf/LM/LMH6683.html; ComponentLink3Description: MTC14 Package Page; ComponentLink3URL: http://www.national.com/packaging/folders/mtc14.html
footprint MTC14_N (TSOP, 14-Leads, Body 5x4.4mm, Pitch 0.65mm, IPC Medium Density)
footprint MTC14_L (TSOP, 14-Leads, Body 5x4.4mm, Pitch 0.65mm, IPC High Density)
footprint MTC14_M (TSOP, 14-Leads, Body 5x4.4mm, Pitch 0.65mm, IPC Low Density)
pins on every part: 4 V+ (power), 11 V- (power)
part A pins: 5 IN1+ (in), 6 IN1- (in), 7 OUT1 (out)
part B pins: 8 OUT2 (out), 9 IN2- (in), 10 IN2+ (in)
part C pins: 12 IN3+ (in), 13 IN3- (in), 14 OUT3 (out)
part D pins: 1 NC, 2 NC, 3 NC

## LMH6702JFQMLV
designator U?
1.7 GHz, Ultra Low Distortion, Wideband Op Amp; PartNumber: LMH6702JFQMLV; Manufacturer: National Semiconductor; CompType: Amplifiers; PackageTopMarking: NSZSSXXYYA*LMH6702JF*QV Q 5962F*0254601VPA; PowerWise: Y; MilaeroCode: DXX; Published: 4-Dec-2008; DatasheetVersion: Nov-2005; PackageVersion: revM, Jul-2002; PackageReference: J08A; Publisher: Altium Limited; PackageDescription: Cerdip, .400 x .310in Body, 8 Lead, .300in Centers, .100in Pitch; RoHS: N; PinCount: 8; ComponentLink1Description: LMH6702QML Datasheet; ComponentLink1URL: http://www.national.com/ds/LM/LMH6702QML.pdf; ComponentLink2Description: LMH6702 Web Page; ComponentLink2URL: http://www.national.com/pf/LM/LMH6702.html; ComponentLink3Description: J08A Package Page; ComponentLink3URL: http://www.national.com/packaging/folders/j08a.html
footprint J08A (DIP, 8-Leads, Row Spacing 7.62mm, Pitch 2.54mm, Body 9.78x6.73mm)
pins: 1 NC, 2 IN- (in), 3 IN+ (in), 4 V- (power), 5 NC, 6 OUT (out), 7 V+ (power), 8 NC

## LMH6702MA
designator U?
1.7 GHz, Ultra Low Distortion, Wideband Op Amp; PartNumber: LMH6702MA; Manufacturer: National Semiconductor; CompType: Amplifiers; PackageTopMarking: NSZXTT*LMH67*02MA; PowerWise: Y; Published: 4-Dec-2008; LatestRevisionDate: 13-Jan-2009; LatestRevisionNote: Sim Model Added.; DatasheetVersion: May-2005; PackageVersion: revL, Sep-2006; PackageReference: M08A; Publisher: Altium Limited; PackageDescription: SOIC Narrow, 4.9 x 3.9 x 1.45mm, 8 Lead, 1.27mm Pitch; RoHS: O; PinCount: 8; DigiKeyPartNumber: LMH6702MA-ND; Code_JEDEC: MS-012-AA; Code_IPC: SOIC127P600-8; ComponentLink1Description: LMH6702 Datasheet; ComponentLink1URL: http://www.national.com/ds/LM/LMH6702.pdf; ComponentLink2Description: LMH6702 Web Page; ComponentLink2URL: http://www.national.com/pf/LM/LMH6702.html; ComponentLink3Description: M08A Package Page; ComponentLink3URL: http://www.national.com/packaging/folders/m08a.html
footprint M08A_N (SOIC, 8-Leads, Body 4.9x3.9mm, Pitch 1.27mm, IPC Medium Density)
footprint M08A_L (SOIC, 8-Leads, Body 4.9x3.9mm, Pitch 1.27mm, IPC High Density)
footprint M08A_M (SOIC, 8-Leads, Body 4.9x3.9mm, Pitch 1.27mm, IPC Low Density)
simulation model LMH6702 (SUBCKT)
pins: 1 NC, 2 IN- (in), 3 IN+ (in), 4 V- (power), 5 NC, 6 OUT (out), 7 V+ (power), 8 NC

## LMH6702MF
designator U?
1.7 GHz, Ultra Low Distortion, Wideband Op Amp; PartNumber: LMH6702MF; Manufacturer: National Semiconductor; CompType: Amplifiers; PackageTopMarking: A83A*XTT; PowerWise: Y; Published: 4-Dec-2008; LatestRevisionDate: 13-Jan-2009; LatestRevisionNote: Sim Model Added.; DatasheetVersion: May-2005; PackageVersion: revD, Aug-2008; PackageReference: MF05A; Publisher: Altium Limited; PackageDescription: Molded SOT-23, .115 x .063 x .040 in Body, 5 Lead, .0375 in Pitch; RoHS: O; PinCount: 5; DigiKeyPartNumber: LMH6702MFCT-ND; Code_IPC: SOT23-5; ComponentLink1Description: LMH6702 Datasheet; ComponentLink1URL: http://www.national.com/ds/LM/LMH6702.pdf; ComponentLink2Description: LMH6702 Web Page; ComponentLink2URL: http://www.national.com/pf/LM/LMH6702.html; ComponentLink3Description: MF05A Package Page; ComponentLink3URL: http://www.national.com/packaging/folders/mf05a.html
footprint MF05A_N (SOT23, 5-Leads, Body 2.9x1.6mm, Pitch 0.95mm, Lead Span 2.8mm, IPC Medium Density)
footprint MF05A_L (SOT23, 5-Leads, Body 2.9x1.6mm, Pitch 0.95mm, Lead Span 2.8mm, IPC High Density)
footprint MF05A_M (SOT23, 5-Leads, Body 2.9x1.6mm, Pitch 0.95mm, Lead Span 2.8mm, IPC Low Density)
simulation model LMH6702 (SUBCKT)
pins: 1 OUT (out), 2 V- (power), 3 IN+ (in), 4 IN- (in), 5 V+ (power)

## LMH6702WGFQMLV
designator U?
1.7 GHz, Ultra Low Distortion, Wideband Op Amp; PartNumber: LMH6702WGFQMLV; Manufacturer: National Semiconductor; CompType: Amplifiers; PackageTopMarking: NS5962F02*54601VZA*LMH6702*WGFQV Q*ZSSXXYYA; PowerWise: Y; MilaeroCode: DXX; Published: 4-Dec-2008; DatasheetVersion: Nov-2005; PackageVersion: revF, Oct-2008; PackageReference: WG10A; Publisher: Altium Limited; PackageDescription: Cerpack, .270 x .241 x .070in, 10 Lead, .050in Pitch, Gull Wing; RoHS: N; PinCount: 10; ComponentLink1Description: LMH6702QML Datasheet; ComponentLink1URL: http://www.national.com/ds/LM/LMH6702QML.pdf; ComponentLink2Description: LMH6702 Web Page; ComponentLink2URL: http://www.national.com/pf/LM/LMH6702.html; ComponentLink3Description: WG10A Package Page; ComponentLink3URL: http://www.national.com/packaging/folders/wg10a.html
footprint WG10A_N (CERPACK, 10-Leads, Body 6.9x6.3mm, Pitch 1.27mm, IPC Medium Density)
footprint WG10A_L (CERPACK, 10-Leads, Body 6.9x6.3mm, Pitch 1.27mm, IPC High Density)
footprint WG10A_M (CERPACK, 10-Leads, Body 6.9x6.3mm, Pitch 1.27mm, IPC Low Density)
part A pins: 2 IN- (in), 3 IN+ (in), 4 V- (power), 8 OUT (out), 9 V+ (power)
part B pins: 1 NC, 5 NC, 6 NC, 7 NC, 10 NC

## LMH6703MA
designator U?
1.2 GHz, Low Distortion Op Amp with Shutdown; PartNumber: LMH6703MA; Manufacturer: National Semiconductor; CompType: Amplifiers; PackageTopMarking: NSZXTT*LMH67*03MA; PowerWise: Y; Published: 4-Dec-2008; LatestRevisionDate: 13-Jan-2009; LatestRevisionNote: Sim Model Added.; DatasheetVersion: May-2005; PackageVersion: revL, Sep-2006; PackageReference: M08A; Publisher: Altium Limited; PackageDescription: SOIC Narrow, 4.9 x 3.9 x 1.45mm, 8 Lead, 1.27mm Pitch; RoHS: Y; PinCount: 8; DigiKeyPartNumber: LMH6703MA-ND; Code_JEDEC: MS-012-AA; Code_IPC: SOIC127P600-8; ComponentLink1Description: LMH6703 Datasheet; ComponentLink1URL: http://www.national.com/ds/LM/LMH6703.pdf; ComponentLink2Description: LMH6703 Web Page; ComponentLink2URL: http://www.national.com/pf/LM/LMH6703.html; ComponentLink3Description: M08A Package Page; ComponentLink3URL: http://www.national.com/packaging/folders/m08a.html
footprint M08A_N (SOIC, 8-Leads, Body 4.9x3.9mm, Pitch 1.27mm, IPC Medium Density)
footprint M08A_L (SOIC, 8-Leads, Body 4.9x3.9mm, Pitch 1.27mm, IPC High Density)
footprint M08A_M (SOIC, 8-Leads, Body 4.9x3.9mm, Pitch 1.27mm, IPC Low Density)
simulation model LMH6703C (SUBCKT)
pins: 1 NC, 2 IN- (in), 3 IN+ (in), 4 V- (power), 5 NC, 6 OUT (out), 7 V+ (power), 8 ~{SD}

## LMH6703MF
designator U?
1.2 GHz, Low Distortion Op Amp with Shutdown; PartNumber: LMH6703MF; Manufacturer: National Semiconductor; CompType: Amplifiers; PackageTopMarking: AR1A*XTT; PowerWise: Y; Published: 4-Dec-2008; LatestRevisionDate: 13-Jan-2009; LatestRevisionNote: Sim Model Added.; DatasheetVersion: May-2005; PackageVersion: revC, Sep-2005; PackageReference: MF06A; Publisher: Altium Limited; PackageDescription: Molded SOT-23, .115 x .063 x .040in Body, 6 Lead, .0375in in Pitch; RoHS: Y; PinCount: 6; DigiKeyPartNumber: LMH6703MFCT-ND; Code_JEDEC: MO-178-AB; Code_IPC: SOT26A-6; ComponentLink1Description: LMH6703 Datasheet; ComponentLink1URL: http://www.national.com/ds/LM/LMH6703.pdf; ComponentLink2Description: LMH6703 Web Page; ComponentLink2URL: http://www.national.com/pf/LM/LMH6703.html; ComponentLink3Description: MF06A Package Page; ComponentLink3URL: http://www.national.com/packaging/folders/mf06a.html
footprint MF06A_N (SOT23, 6-Leads, Body 2.9x1.6mm, Pitch 0.95mm, Lead Span 2.8mm, IPC Medium Density)
footprint MF06A_L (SOT23, 6-Leads, Body 2.9x1.6mm, Pitch 0.95mm, Lead Span 2.8mm, IPC High Density)
footprint MF06A_M (SOT23, 6-Leads, Body 2.9x1.6mm, Pitch 0.95mm, Lead Span 2.8mm, IPC Low Density)
simulation model LMH6703T (SUBCKT)
pins: 1 OUT (out), 2 V- (power), 3 IN+ (in), 4 IN- (in), 5 ~{SD}, 6 V+ (power)

## LMH6704MA
designator U?
650 MHz Selectable Gain Buffer with Disable; PartNumber: LMH6704MA; Manufacturer: National Semiconductor; CompType: Amplifiers; PackageTopMarking: NSZXTT*LMH67*04MA; PowerWise: N; Published: 4-Dec-2008; DatasheetVersion: Sep-2006; PackageVersion: revL, Sep-2006; PackageReference: M08A; Publisher: Altium Limited; PackageDescription: SOIC Narrow, 4.9 x 3.9 x 1.45mm, 8 Lead, 1.27mm Pitch; RoHS: Y; PinCount: 8; DigiKeyPartNumber: LMH6704MA-ND; Code_JEDEC: MS-012-AA; Code_IPC: SOIC127P600-8; ComponentLink1Description: LMH6704 Datasheet; ComponentLink1URL: http://www.national.com/ds/LM/LMH6704.pdf; ComponentLink2Description: LMH6704 Web Page; ComponentLink2URL: http://www.national.com/pf/LM/LMH6704.html; ComponentLink3Description: M08A Package Page; ComponentLink3URL: http://www.national.com/packaging/folders/m08a.html
footprint M08A_N (SOIC, 8-Leads, Body 4.9x3.9mm, Pitch 1.27mm, IPC Medium Density)
footprint M08A_L (SOIC, 8-Leads, Body 4.9x3.9mm, Pitch 1.27mm, IPC High Density)
footprint M08A_M (SOIC, 8-Leads, Body 4.9x3.9mm, Pitch 1.27mm, IPC Low Density)
pins: 1 NC, 2 IN- (in), 3 IN+ (in), 4 VS- (power), 5 NC, 6 OUT (out), 7 VS+ (power), 8 ~{DIS} (in)

## LMH6704MF
designator U?
650 MHz Selectable Gain Buffer with Disable; PartNumber: LMH6704MF; Manufacturer: National Semiconductor; CompType: Amplifiers; PackageTopMarking: B07A*XTT; PowerWise: N; Published: 4-Dec-2008; DatasheetVersion: Sep-2006; PackageVersion: revC, Sep-2005; PackageReference: MF06A; Publisher: Altium Limited; PackageDescription: Molded SOT-23, .115 x .063 x .040in Body, 6 Lead, .0375in in Pitch; RoHS: O; PinCount: 6; DigiKeyPartNumber: LMH6704MFCT-ND; Code_JEDEC: MO-178-AB; Code_IPC: SOT26A-6; ComponentLink1Description: LMH6704 Datasheet; ComponentLink1URL: http://www.national.com/ds/LM/LMH6704.pdf; ComponentLink2Description: LMH6704 Web Page; ComponentLink2URL: http://www.national.com/pf/LM/LMH6704.html; ComponentLink3Description: MF06A Package Page; ComponentLink3URL: http://www.national.com/packaging/folders/mf06a.html
footprint MF06A_N (SOT23, 6-Leads, Body 2.9x1.6mm, Pitch 0.95mm, Lead Span 2.8mm, IPC Medium Density)
footprint MF06A_L (SOT23, 6-Leads, Body 2.9x1.6mm, Pitch 0.95mm, Lead Span 2.8mm, IPC High Density)
footprint MF06A_M (SOT23, 6-Leads, Body 2.9x1.6mm, Pitch 0.95mm, Lead Span 2.8mm, IPC Low Density)
pins: 1 OUT (out), 2 VS- (power), 3 IN+ (in), 4 IN- (in), 5 ~{DIS} (in), 6 VS+ (power)

## LMH6714MA
designator U?
Single Wideband Video Op Amp; PartNumber: LMH6714MA; Manufacturer: National Semiconductor; CompType: Amplifiers; PackageTopMarking: NSZXTT*LMH67*14MA; PowerWise: Y; Published: 4-Dec-2008; LatestRevisionDate: 13-Jan-2009; LatestRevisionNote: Sim Model Added.; DatasheetVersion: Oct-2008; PackageVersion: revL, Sep-2006; PackageReference: M08A; Publisher: Altium Limited; PackageDescription: SOIC Narrow, 4.9 x 3.9 x 1.45mm, 8 Lead, 1.27mm Pitch; RoHS: O; PinCount: 8; DigiKeyPartNumber: LMH6714MA-ND; Code_JEDEC: MS-012-AA; Code_IPC: SOIC127P600-8; ComponentLink1Description: LMH6714 Datasheet; ComponentLink1URL: http://www.national.com/ds/LM/LMH6714.pdf; ComponentLink2Description: LMH6714 Web Page; ComponentLink2URL: http://www.national.com/pf/LM/LMH6714.html; ComponentLink3Description: M08A Package Page; ComponentLink3URL: http://www.national.com/packaging/folders/m08a.html
footprint M08A_N (SOIC, 8-Leads, Body 4.9x3.9mm, Pitch 1.27mm, IPC Medium Density)
footprint M08A_L (SOIC, 8-Leads, Body 4.9x3.9mm, Pitch 1.27mm, IPC High Density)
footprint M08A_M (SOIC, 8-Leads, Body 4.9x3.9mm, Pitch 1.27mm, IPC Low Density)
simulation model LMH6714 (SUBCKT)
pins: 1 NC, 2 IN- (in), 3 IN+ (in), 4 V- (power), 5 NC, 6 OUT (out), 7 V+ (power), 8 NC

## LMH6714MF
designator U?
Single Wideband Video Operational Amplifier; PartNumber: LMH6714MF; Manufacturer: National Semiconductor; CompType: Amplifiers; PackageTopMarking: A95A*XTT; Published: 4-Dec-2008; LatestRevisionDate: 13-Jan-2009; LatestRevisionNote: Sim Model Added.; DatasheetVersion: Oct-2008; PackageVersion: revD, Aug-2008; PackageReference: MF05A; Publisher: Altium Limited; PackageDescription: Molded SOT-23, .115 x .063 x .040 in Body, 5 Lead, .0375 in Pitch; RoHS: O; PinCount: 5; DigiKeyPartNumber: LMH6714MFCT-ND; Code_IPC: SOT23-5; ComponentLink1Description: LMH6714 Datasheet; ComponentLink1URL: http://www.national.com/ds/LM/LMH6714.pdf; ComponentLink2Description: LMH6714 Web Page; ComponentLink2URL: http://www.national.com/pf/LM/LMH6714.html; ComponentLink3Description: MF05A Package Page; ComponentLink3URL: http://www.national.com/packaging/folders/mf05a.html
footprint MF05A_N (SOT23, 5-Leads, Body 2.9x1.6mm, Pitch 0.95mm, Lead Span 2.8mm, IPC Medium Density)
footprint MF05A_L (SOT23, 5-Leads, Body 2.9x1.6mm, Pitch 0.95mm, Lead Span 2.8mm, IPC High Density)
footprint MF05A_M (SOT23, 5-Leads, Body 2.9x1.6mm, Pitch 0.95mm, Lead Span 2.8mm, IPC Low Density)
simulation model LMH6714 (SUBCKT)
pins: 1 OUT (out), 2 V- (power), 3 IN+ (in), 4 IN- (in), 5 V+ (power)

## LMH6715J-QML
designator U?
Dual Wideband Video Op Amp; PartNumber: LMH6715J-QML; Manufacturer: National Semiconductor; CompType: Amplifiers; PackageTopMarking: NSZSSXXYYA*LMH6715J-*QML 5962-*0254701QPA Q; PowerWise: N; MilaeroCode: B88; Published: 4-Dec-2008; LatestRevisionDate: 13-Jan-2009; LatestRevisionNote: Sim Model Added.; DatasheetVersion: Jan-2003; PackageVersion: revM, Jul-2002; PackageReference: J08A; Publisher: Altium Limited; PackageDescription: Cerdip, .400 x .310in Body, 8 Lead, .300in Centers, .100in Pitch; RoHS: N; PinCount: 8; ComponentLink1Description: LMH6715 Datasheet; ComponentLink1URL: http://www.national.com/ds/LM/LMH6715.pdf; ComponentLink2Description: LMH6715 Web Page; ComponentLink2URL: http://www.national.com/pf/LM/LMH6715.html; ComponentLink3Description: J08A Package Page; ComponentLink3URL: http://www.national.com/packaging/folders/j08a.html
footprint J08A (DIP, 8-Leads, Row Spacing 7.62mm, Pitch 2.54mm, Body 9.78x6.73mm)
simulation model LMH6715 (SUBCKT)
pins on every part: 4 V- (power), 8 V+ (power)
part A pins: 1 OUT1 (out), 2 IN1- (in), 3 IN1+ (in)
part B pins: 5 IN2+ (in), 6 IN2- (in), 7 OUT2 (out)

## LMH6715JFQMLV
designator U?
Dual Wideband Video Op Amp; PartNumber: LMH6715JFQMLV; Manufacturer: National Semiconductor; CompType: Amplifiers; PackageTopMarking: NSZSSXXYYA*LMH6715JF*QV Q 5962F*0254701VPA; PowerWise: N; MilaeroCode: DXX; Published: 4-Dec-2008; LatestRevisionDate: 13-Jan-2009; LatestRevisionNote: Sim Model Added.; DatasheetVersion: Jan-2003; PackageVersion: revM, Jul-2002; PackageReference: J08A; Publisher: Altium Limited; PackageDescription: Cerdip, .400 x .310in Body, 8 Lead, .300in Centers, .100in Pitch; RoHS: N; PinCount: 8; ComponentLink1Description: LMH6715 Datasheet; ComponentLink1URL: http://www.national.com/ds/LM/LMH6715.pdf; ComponentLink2Description: LMH6715 Web Page; ComponentLink2URL: http://www.national.com/pf/LM/LMH6715.html; ComponentLink3Description: J08A Package Page; ComponentLink3URL: http://www.national.com/packaging/folders/j08a.html
footprint J08A (DIP, 8-Leads, Row Spacing 7.62mm, Pitch 2.54mm, Body 9.78x6.73mm)
simulation model LMH6715 (SUBCKT)
pins on every part: 4 V- (power), 8 V+ (power)
part A pins: 1 OUT1 (out), 2 IN1- (in), 3 IN1+ (in)
part B pins: 5 IN2+ (in), 6 IN2- (in), 7 OUT2 (out)

## LMH6715MA
designator U?
Dual Wideband Video Op Amp; PartNumber: LMH6715MA; Manufacturer: National Semiconductor; CompType: Amplifiers; PackageTopMarking: NSZXTT*LMH67*15MA; PowerWise: N; Published: 4-Dec-2008; LatestRevisionDate: 13-Jan-2009; LatestRevisionNote: Sim Model Added.; DatasheetVersion: Jan-2003; PackageVersion: revL, Sep-2006; PackageReference: M08A; Publisher: Altium Limited; PackageDescription: SOIC Narrow, 4.9 x 3.9 x 1.45mm, 8 Lead, 1.27mm Pitch; RoHS: Y; PinCount: 8; DigiKeyPartNumber: LMH6715MA-ND; Code_JEDEC: MS-012-AA; Code_IPC: SOIC127P600-8; ComponentLink1Description: LMH6715 Datasheet; ComponentLink1URL: http://www.national.com/ds/LM/LMH6715.pdf; ComponentLink2Description: LMH6715 Web Page; ComponentLink2URL: http://www.national.com/pf/LM/LMH6715.html; ComponentLink3Description: M08A Package Page; ComponentLink3URL: http://www.national.com/packaging/folders/m08a.html
footprint M08A_N (SOIC, 8-Leads, Body 4.9x3.9mm, Pitch 1.27mm, IPC Medium Density)
footprint M08A_L (SOIC, 8-Leads, Body 4.9x3.9mm, Pitch 1.27mm, IPC High Density)
footprint M08A_M (SOIC, 8-Leads, Body 4.9x3.9mm, Pitch 1.27mm, IPC Low Density)
simulation model LMH6715 (SUBCKT)
pins on every part: 4 V- (power), 8 V+ (power)
part A pins: 1 OUT1 (out), 2 IN1- (in), 3 IN1+ (in)
part B pins: 5 IN2+ (in), 6 IN2- (in), 7 OUT2 (out)

## LMH6718MA
designator U?
Dual, High Output, Selectable Gain Buffer; PartNumber: LMH6718MA; Manufacturer: National Semiconductor; CompType: Amplifiers; PackageTopMarking: NSZXTT*LMH67*18MA; PowerWise: N; Published: 4-Dec-2008; LatestRevisionDate: 13-Jan-2009; LatestRevisionNote: Sim Model Added.; DatasheetVersion: Sep-2006; PackageVersion: revL, Sep-2006; PackageReference: M08A; Publisher: Altium Limited; PackageDescription: SOIC Narrow, 4.9 x 3.9 x 1.45mm, 8 Lead, 1.27mm Pitch; RoHS: O; PinCount: 8; DigiKeyPartNumber: LMH6718MA-ND; Code_JEDEC: MS-012-AA; Code_IPC: SOIC127P600-8; ComponentLink1Description: LMH6718 Datasheet; ComponentLink1URL: http://www.national.com/ds/LM/LMH6718.pdf; ComponentLink2Description: LMH6718 Web Page; ComponentLink2URL: http://www.national.com/pf/LM/LMH6718.html; ComponentLink3Description: M08A Package Page; ComponentLink3URL: http://www.national.com/packaging/folders/m08a.html
footprint M08A_N (SOIC, 8-Leads, Body 4.9x3.9mm, Pitch 1.27mm, IPC Medium Density)
footprint M08A_L (SOIC, 8-Leads, Body 4.9x3.9mm, Pitch 1.27mm, IPC High Density)
footprint M08A_M (SOIC, 8-Leads, Body 4.9x3.9mm, Pitch 1.27mm, IPC Low Density)
simulation model LMH6718 (SUBCKT)
pins on every part: 4 VCC- (power), 8 VCC+ (power)
part A pins: 1 OUT1 (out), 2 IN1- (in), 3 IN1+ (in)
part B pins: 5 IN2+ (in), 6 IN2- (in), 7 OUT2 (out)

## LMH6720MA
designator U?
Single Wideband Video Op Amp with Shutdown; PartNumber: LMH6720MA; Manufacturer: National Semiconductor; CompType: Amplifiers; PackageTopMarking: NSZXTT*LMH67*20MA; PowerWise: Y; Published: 4-Dec-2008; LatestRevisionDate: 13-Jan-2009; LatestRevisionNote: Sim Model Added.; DatasheetVersion: Oct-2008; PackageVersion: revL, Sep-2006; PackageReference: M08A; Publisher: Altium Limited; PackageDescription: SOIC Narrow, 4.9 x 3.9 x 1.45mm, 8 Lead, 1.27mm Pitch; RoHS: Y; PinCount: 8; DigiKeyPartNumber: LMH6720MA-ND; Code_JEDEC: MS-012-AA; Code_IPC: SOIC127P600-8; ComponentLink1Description: LMH6720 Datasheet; ComponentLink1URL: http://www.national.com/ds/LM/LMH6720.pdf; ComponentLink2Description: LMH6720 Web Page; ComponentLink2URL: http://www.national.com/pf/LM/LMH6720.html; ComponentLink3Description: M08A Package Page; ComponentLink3URL: http://www.national.com/packaging/folders/m08a.html
footprint M08A_N (SOIC, 8-Leads, Body 4.9x3.9mm, Pitch 1.27mm, IPC Medium Density)
footprint M08A_L (SOIC, 8-Leads, Body 4.9x3.9mm, Pitch 1.27mm, IPC High Density)
footprint M08A_M (SOIC, 8-Leads, Body 4.9x3.9mm, Pitch 1.27mm, IPC Low Density)
simulation model LMH6720 (SUBCKT)
pins: 1 NC, 2 IN- (in), 3 IN+ (in), 4 V- (power), 5 NC, 6 OUT (out), 7 V+ (power), 8 ~{SD}

## LMH6720MF
designator U?
Single Wideband Video Op Amp with Shutdown; PartNumber: LMH6720MF; Manufacturer: National Semiconductor; CompType: Amplifiers; PackageTopMarking: A96A*XTT; PowerWise: Y; Published: 4-Dec-2008; LatestRevisionDate: 13-Jan-2009; LatestRevisionNote: Sim Model Added.; DatasheetVersion: Oct-2008; PackageVersion: revC, Sep-2005; PackageReference: MF06A; Publisher: Altium Limited; PackageDescription: Molded SOT-23, .115 x .063 x .040in Body, 6 Lead, .0375in in Pitch; RoHS: Y; PinCount: 6; DigiKeyPartNumber: LMH6720MFCT-ND; Code_JEDEC: MO-178-AB; Code_IPC: SOT26A-6; ComponentLink1Description: LMH6720 Datasheet; ComponentLink1URL: http://www.national.com/ds/LM/LMH6720.pdf; ComponentLink2Description: LMH6720 Web Page; ComponentLink2URL: http://www.national.com/pf/LM/LMH6720.html; ComponentLink3Description: MF06A Package Page; ComponentLink3URL: http://www.national.com/packaging/folders/mf06a.html
footprint MF06A_N (SOT23, 6-Leads, Body 2.9x1.6mm, Pitch 0.95mm, Lead Span 2.8mm, IPC Medium Density)
footprint MF06A_L (SOT23, 6-Leads, Body 2.9x1.6mm, Pitch 0.95mm, Lead Span 2.8mm, IPC High Density)
footprint MF06A_M (SOT23, 6-Leads, Body 2.9x1.6mm, Pitch 0.95mm, Lead Span 2.8mm, IPC Low Density)
simulation model LMH6720 (SUBCKT)
pins: 1 OUT (out), 2 V- (power), 3 IN+ (in), 4 IN- (in), 5 ~{SD}, 6 V+ (power)